# Altium schematic symbol library CMEJ-0415-42-P.SchLib: 1 symbol
Pins are listed as number, name and electrical type; pins without a type are passive.

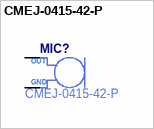
[diagram p0: symbol CMEJ-0415-42-P]

## CMEJ-0415-42-P
designator MIC?  Manufacturer Part Number: CMEJ-0415-42-P  (hidden comment: *)
pins: 1 OUT, 2 GND (power)